# Altium footprint library Passives_0603.PcbLib: 33 footprints (part 3 of 3)
Each footprint in its own frame and in the unit in brackets; x right, y up, seen from the top. Pads: shape width x height; smd on the part's side, far side on the other; paste and mask are expansions set on the pad; w line width, h text height; cw(c..) or ccw(c..) is an arc to the next point about the centre after c.
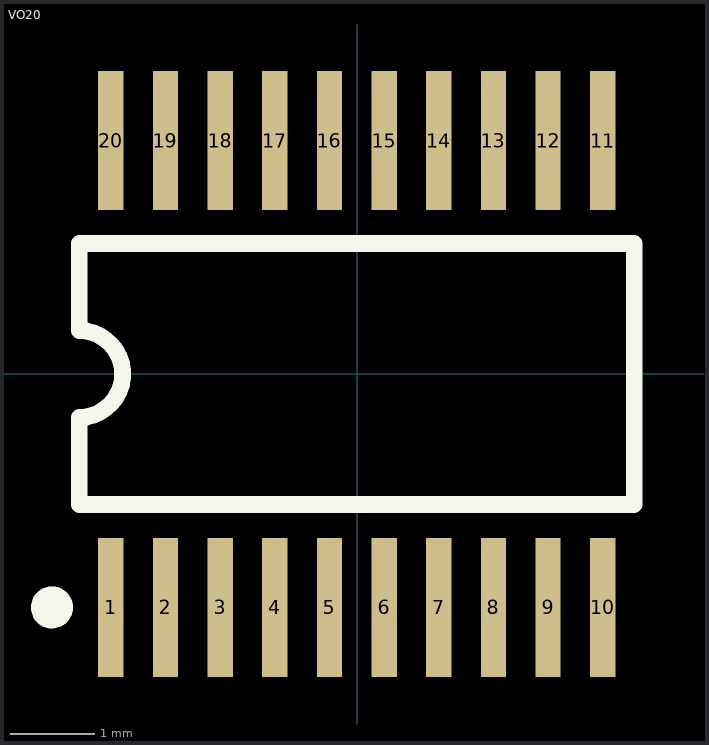
[diagram p2: the footprint, top view; thin cyan lines are the x and y axes]

## VO20 [mm]
pads (20):
  rect 0.3x1.65 smd: 1(-2.929,-2.778) 2(-2.279,-2.778) 3(-1.629,-2.778) 4(-0.979,-2.778) 5(-0.329,-2.778) 6(0.321,-2.778) 7(0.971,-2.778) 8(1.621,-2.778) 9(2.271,-2.778) 10(2.921,-2.778) 11(2.921,2.772) 12(2.271,2.772) 13(1.621,2.772) 14(0.971,2.772) 15(0.321,2.772) 16(-0.329,2.772) 17(-0.979,2.772) 18(-1.629,2.772) 19(-2.279,2.772) 20(-2.929,2.772)
Top Overlay:
  circle w0.25: c-3.629,-2.778 r0.125
  lines w0.2: -3.304,-1.553 -3.304,-0.519 ccw(c-3.304,-0.003) -3.304,0.514 -3.304,1.547 3.296,1.547 3.296,-1.553 -3.304,-1.553
3D body: height 1.52, standoff 0, extent -3.302,-1.524 3.302,1.524
3D body: height 0.51, standoff 0, extent 2.794,-3.556 3.048,-1.524
3D body: height 0.51, standoff 0, extent 2.144,-3.556 2.398,-1.524
3D body: height 0.51, standoff 0, extent 1.494,-3.556 1.748,-1.524
3D body: height 0.51, standoff 0, extent 0.844,-3.556 1.098,-1.524
3D body: height 0.51, standoff 0, extent 0.194,-3.556 0.448,-1.524
3D body: height 0.51, standoff 0, extent -0.456,-3.556 -0.202,-1.524
3D body: height 0.51, standoff 0, extent -1.106,-3.556 -0.852,-1.524
3D body: height 0.51, standoff 0, extent -1.756,-3.556 -1.502,-1.524
3D body: height 0.51, standoff 0, extent -2.406,-3.556 -2.152,-1.524
3D body: height 0.51, standoff 0, extent -3.056,-3.556 -2.802,-1.524
3D body: height 0.51, standoff 0, extent -3.055,1.519 -2.801,3.551
3D body: height 0.51, standoff 0, extent -2.405,1.519 -2.151,3.551
3D body: height 0.51, standoff 0, extent -1.755,1.519 -1.501,3.551
3D body: height 0.51, standoff 0, extent -1.105,1.519 -0.851,3.551
3D body: height 0.51, standoff 0, extent -0.455,1.519 -0.201,3.551
3D body: height 0.51, standoff 0, extent 0.195,1.519 0.449,3.551
3D body: height 0.51, standoff 0, extent 0.845,1.519 1.099,3.551
3D body: height 0.51, standoff 0, extent 1.495,1.519 1.749,3.551
3D body: height 0.51, standoff 0, extent 2.145,1.519 2.399,3.551
3D body: height 0.51, standoff 0, extent 2.795,1.519 3.049,3.551